# Altium footprint library XDCR_RIC11-22S15D7-TH.PcbLib: 1 footprints
Each footprint in its own frame and in the unit in brackets; x right, y up, seen from the top. Pads: shape width x height; smd on the part's side, far side on the other; paste and mask are expansions set on the pad; w line width, h text height; cw(c..) or ccw(c..) is an arc to the next point about the centre after c.
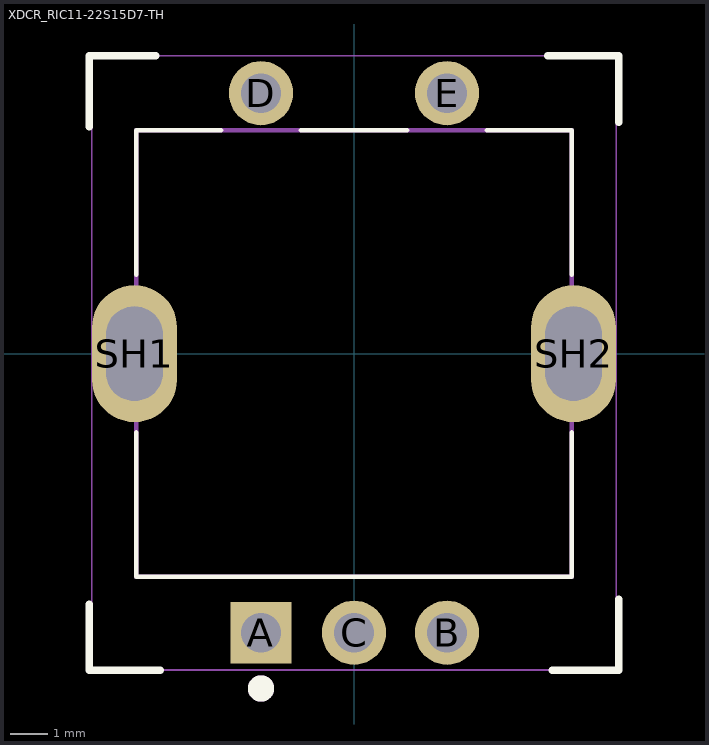
[diagram p0: the footprint, top view; thin cyan lines are the x and y axes]

## XDCR_RIC11-22S15D7-TH [mil]
height 582.68
pads (7):
  rect 65x65 / inner round 65 / far side rect 65x65 hole 42: A(-98.43,-295.28)
  round 68 hole 42: B(98.43,-295.28) C(0,-295.28) D(-98.43,275.59) E(98.43,275.59)
  oval 90x145 hole 60 slot 100 at 90 deg: SH1(-232.28,0) SH2(232.28,0)
Top Overlay:
  circle w20: c-98.43,-354.33 r3.94
  lines w5: -230.31,-83.46 -230.31,-236.22 230.31,-236.22 230.31,-83.46 ; -230.31,83.46 -230.31,236.22 -140.71,236.22 ; -56.14,236.22 56.14,236.22 ; 140.71,236.22 230.31,236.22 230.31,83.46
  lines w8: -280,-265 -280,-335 -205,-335 ; -280,240 -280,315 -210,315 ; 205,315 280,315 280,245 ; 210,-335 280,-335 280,-260
Assembly Top:
  circle w20: c-98.43,-354.33 r3.94
  lines w5: -230.31,-236.22 230.31,-236.22 230.31,236.22 -230.31,236.22 -230.31,-236.22
Courtyard Top:
  lines w1.97: -277.56,-334.8 277.56,-334.8 277.56,315.12 -277.56,315.12 -277.56,-334.8
3D body "pec11r-4015f-s0024.SLDPRT": height 833.86, standoff -158.15, extent -275.51,-303.15 275.51,283.46